# Altium footprint library RCID.PcbLib: 104 footprints (part 1 of 7)
Each footprint in its own frame and in the unit in brackets; x right, y up, seen from the top. Pads: shape width x height; smd on the part's side, far side on the other; paste and mask are expansions set on the pad; w line width, h text height; cw(c..) or ccw(c..) is an arc to the next point about the centre after c.
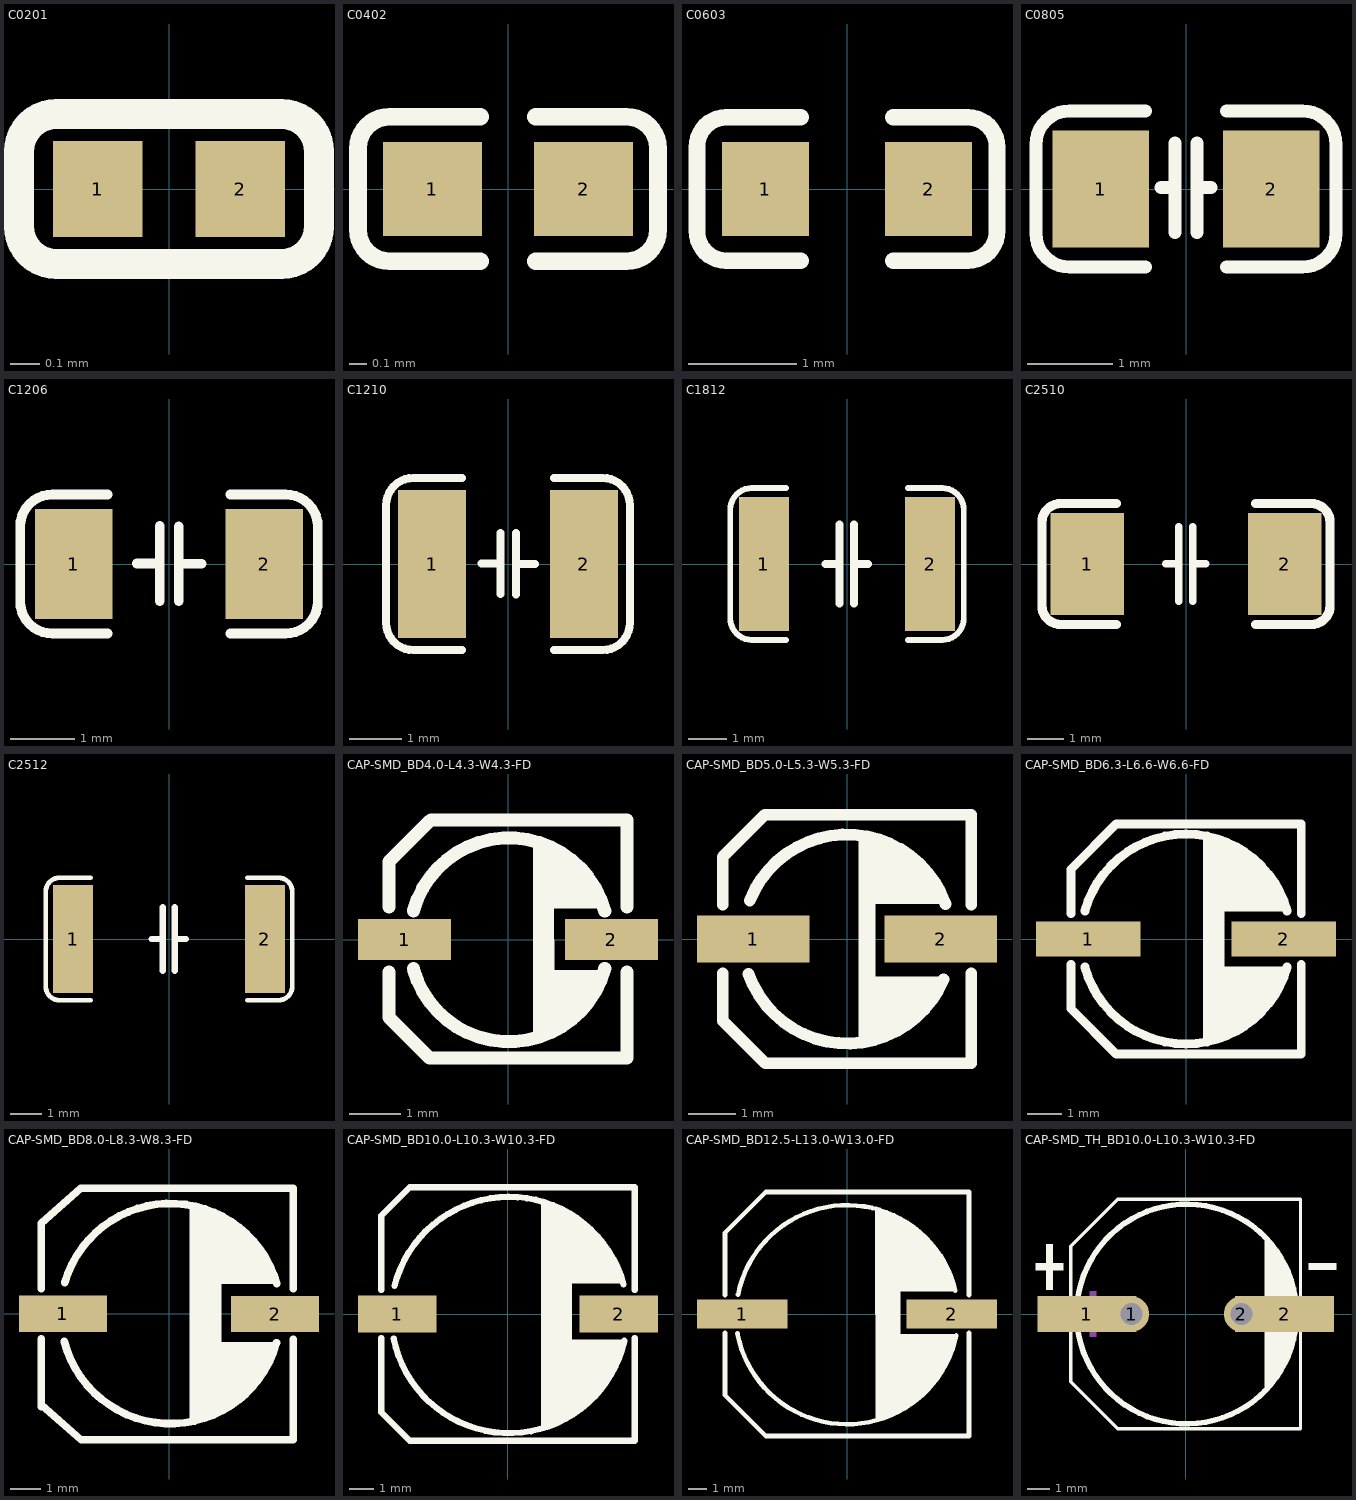
[diagram p0: the footprints below, top view; thin cyan lines are the x and y axes]

## C0201 [mm]
pads (2):
  rect 0.303x0.324 smd paste-100 mask+0.051: 1(-0.242,0) 2(0.242,0)
Top Overlay:
  lines w0.102: -0.508,-0.127 ccw(c-0.381,-0.127) -0.381,-0.254 0,-0.254 0.381,-0.254 ccw(c0.381,-0.127) 0.508,-0.127 0.508,0.127 ccw(c0.381,0.127) 0.381,0.254 -0.381,0.254 ccw(c-0.381,0.127) -0.508,0.127 -0.508,-0.127
Top Paste:
  region: 0.081,-0.138 0.081,0.138 0.105,0.162 0.369,0.162 0.393,0.138 0.393,-0.138 0.369,-0.162 0.105,-0.162
  region: -0.081,-0.138 -0.081,0.138 -0.105,0.162 -0.369,0.162 -0.393,0.138 -0.393,-0.138 -0.369,-0.162 -0.105,-0.162

## C0402 [mm]
pads (2):
  rect 0.566x0.54 smd paste-100 mask+0.051: 1(-0.433,0) 2(0.433,0)
Top Overlay:
  lines w0.102: -0.159,-0.413 -0.678,-0.413 cw(c-0.678,-0.233) -0.858,-0.233 -0.858,0.233 cw(c-0.678,0.233) -0.678,0.413 -0.159,0.413 ; 0.159,-0.413 0.678,-0.413 ccw(c0.678,-0.233) 0.858,-0.233 0.858,0.233 ccw(c0.678,0.233) 0.678,0.413 0.159,0.413
Top Paste:
  region: 0.135,-0.23 0.135,0.23 0.175,0.27 0.676,0.27 0.716,0.23 0.716,-0.23 0.676,-0.27 0.175,-0.27
  region: -0.135,-0.23 -0.135,0.23 -0.175,0.27 -0.676,0.27 -0.716,0.23 -0.716,-0.23 -0.676,-0.27 -0.175,-0.27

## C0603 [mm]
pads (2):
  rect 0.806x0.864 smd paste-100 mask+0.051: 1(-0.753,0) 2(0.753,0)
Top Overlay:
  lines w0.152: -0.426,-0.661 -1.117,-0.661 cw(c-1.117,-0.393) -1.385,-0.393 -1.385,0.393 cw(c-1.117,0.393) -1.117,0.661 -0.426,0.661 ; 0.426,-0.661 1.117,-0.661 ccw(c1.117,-0.393) 1.385,-0.393 1.385,0.393 ccw(c1.117,0.393) 1.117,0.661 0.426,0.661
Top Paste:
  region: 1.195,0.45 0.395,0.45 0.345,0.4 0.345,0.172 0.715,0.172 0.715,-0.158 0.345,-0.158 0.345,-0.4 0.395,-0.45 1.195,-0.45 1.245,-0.4 1.245,0.4
  region: -0.355,0.4 -0.355,0.172 -0.735,0.172 -0.735,-0.158 -0.355,-0.158 -0.355,-0.4 -0.405,-0.45 -1.195,-0.45 -1.245,-0.4 -1.245,0.4 -1.195,0.45 -0.405,0.45

## C0805 [mm]
pads (2):
  rect 1.133x1.377 smd paste-100 mask+0.051: 1(-1,0) 2(1,0)
Top Overlay:
  lines w0.152: -0.476,-0.917 -1.369,-0.917 cw(c-1.369,-0.525) -1.761,-0.525 -1.761,0.525 cw(c-1.369,0.525) -1.369,0.917 -0.476,0.917 ; -0.295,0.017 -0.127,0.017 ; -0.127,-0.508 -0.127,0.542 ; 0.127,-0.508 0.127,0.542 ; 0.127,0.017 0.295,0.017 ; 0.476,-0.917 1.369,-0.917 ccw(c1.369,-0.525) 1.761,-0.525 1.761,0.525 ccw(c1.369,0.525) 1.369,0.917 0.476,0.917
Top Paste:
  region: -1.7,-0.64 -1.7,0.64 -1.65,0.69 -0.5,0.69 -0.45,0.64 -0.445,0.23 -0.895,0.23 -0.895,-0.22 -0.455,-0.22 -0.45,-0.64 -0.5,-0.69 -1.65,-0.69
  region: 0.45,-0.64 0.45,-0.22 0.895,-0.22 0.895,0.23 0.455,0.23 0.45,0.64 0.5,0.69 1.65,0.69 1.7,0.64 1.7,-0.64 1.65,-0.69 0.5,-0.69

## C1206 [mm]
pads (2):
  rect 1.208x1.701 smd paste-100 mask+0.051: 1(-1.479,0) 2(1.479,0)
Top Overlay:
  lines w0.152: -0.951,-1.079 -1.812,-1.079 cw(c-1.812,-0.58) -2.311,-0.58 -2.311,0.58 cw(c-1.812,0.58) -1.812,1.079 -0.951,1.079 ; -0.502,0.007 -0.144,0.007 ; -0.144,-0.573 -0.144,0.588 ; 0.151,-0.576 0.151,0.584 ; 0.151,0.004 0.508,0.004 ; 0.951,-1.079 1.812,-1.079 ccw(c1.812,-0.58) 2.311,-0.58 2.311,0.58 ccw(c1.812,0.58) 1.812,1.079 0.951,1.079
Top Paste:
  region: -0.875,-0.75 -0.875,-0.389 -0.975,-0.289 -1.186,-0.289 -1.286,-0.189 -1.286,0.189 -1.186,0.289 -0.975,0.289 -0.875,0.389 -0.875,0.75 -0.975,0.85 -1.983,0.85 -2.083,0.75 -2.083,-0.75 -1.983,-0.85 -0.975,-0.85
  region: 0.875,-0.75 0.875,-0.389 0.975,-0.289 1.186,-0.289 1.286,-0.189 1.286,0.189 1.186,0.289 0.975,0.289 0.875,0.389 0.875,0.75 0.975,0.85 1.983,0.85 2.083,0.75 2.083,-0.75 1.983,-0.85 0.975,-0.85

## C1210 [mm]
pads (2):
  rect 1.283x2.808 smd paste-100 mask+0.051: 1(-1.441,0) 2(1.441,0)
Top Overlay:
  lines w0.152: -0.876,-1.633 -1.796,-1.633 cw(c-1.796,-1.118) -2.311,-1.118 -2.311,1.118 cw(c-1.796,1.118) -1.796,1.633 -0.876,1.633 ; -0.502,0.007 -0.144,0.007 ; -0.144,-0.573 -0.144,0.588 ; 0.151,-0.576 0.151,0.584 ; 0.151,0.004 0.508,0.004 ; 0.876,-1.633 1.796,-1.633 ccw(c1.796,-1.118) 2.311,-1.118 2.311,1.118 ccw(c1.796,1.118) 1.796,1.633 0.876,1.633
Top Paste:
  region: 0.8,-1.304 0.8,-0.577 0.9,-0.477 1.136,-0.477 1.236,-0.377 1.236,0.377 1.136,0.477 0.9,0.477 0.8,0.577 0.8,1.304 0.9,1.404 1.983,1.404 2.083,1.304 2.083,-1.304 1.983,-1.404 0.9,-1.404
  region: -0.8,-1.304 -0.8,-0.577 -0.9,-0.477 -1.136,-0.477 -1.236,-0.377 -1.236,0.377 -1.136,0.477 -0.9,0.477 -0.8,0.577 -0.8,1.304 -0.9,1.404 -1.983,1.404 -2.083,1.304 -2.083,-1.304 -1.983,-1.404 -0.9,-1.404

## C1812 [mm]
pads (2):
  rect 1.283x3.456 smd paste-100 mask+0.051: 1(-2.141,0) 2(2.141,0)
Top Overlay:
  lines w0.152: -1.576,-1.957 -2.456,-1.957 cw(c-2.456,-1.402) -3.011,-1.402 -3.011,1.402 cw(c-2.456,1.402) -2.456,1.957 -1.576,1.957 ; 1.576,-1.957 2.456,-1.957 ccw(c2.456,-1.402) 3.011,-1.402 3.011,1.402 ccw(c2.456,1.402) 2.456,1.957 1.576,1.957
  lines w0.203: -0.554,0.002 -0.196,0.002 ; -0.196,-1.014 -0.196,1.018 ; 0.185,-1.014 0.185,1.018 ; 0.185,0.002 0.542,0.002
Top Paste:
  region: 1.5,-1.628 1.5,-0.688 1.6,-0.588 1.836,-0.588 1.936,-0.488 1.936,0.488 1.836,0.588 1.6,0.588 1.5,0.688 1.5,1.628 1.6,1.728 2.683,1.728 2.783,1.628 2.783,-1.628 2.683,-1.728 1.6,-1.728
  region: -1.5,-1.628 -1.5,-0.688 -1.6,-0.588 -1.836,-0.588 -1.936,-0.488 -1.936,0.488 -1.836,0.588 -1.6,0.588 -1.5,0.688 -1.5,1.628 -1.6,1.728 -2.683,1.728 -2.783,1.628 -2.783,-1.628 -2.683,-1.728 -1.6,-1.728

## C2510 [mm]
pads (2):
  rect 2x2.8 smd paste+0 mask+0.05: 1(-2.7,0) 2(2.7,0)
Top Overlay:
  lines w0.203: -0.554,0.002 -0.196,0.002 ; -0.196,-1.014 -0.196,1.018 ; 0.185,-1.014 0.185,1.018 ; 0.185,0.002 0.542,0.002
  lines w0.254: -1.905,-1.651 -3.429,-1.651 cw(c-3.429,-1.143) -3.937,-1.143 -3.937,1.143 cw(c-3.429,1.143) -3.429,1.651 -1.905,1.651 ; 1.905,-1.651 3.429,-1.651 ccw(c3.429,-1.143) 3.937,-1.143 3.937,1.143 ccw(c3.429,1.143) 3.429,1.651 1.905,1.651

## C2512 [mm]
pads (2):
  rect 1.283x3.456 smd paste-100 mask+0.051: 1(-3.066,0) 2(3.066,0)
Top Overlay:
  lines w0.152: -2.501,-1.957 -3.504,-1.957 cw(c-3.504,-1.525) -3.936,-1.525 -3.936,1.525 cw(c-3.504,1.525) -3.504,1.957 -2.501,1.957 ; 2.501,-1.957 3.504,-1.957 ccw(c3.504,-1.525) 3.936,-1.525 3.936,1.525 ccw(c3.504,1.525) 3.504,1.957 2.501,1.957
  lines w0.203: -0.554,0.002 -0.196,0.002 ; -0.196,-1.014 -0.196,1.018 ; 0.185,-1.014 0.185,1.018 ; 0.185,0.002 0.542,0.002
Top Paste:
  region: 2.425,-1.628 2.425,-0.688 2.525,-0.588 2.761,-0.588 2.861,-0.488 2.861,0.488 2.761,0.588 2.525,0.588 2.425,0.688 2.425,1.628 2.525,1.728 3.608,1.728 3.708,1.628 3.708,-1.628 3.608,-1.728 2.525,-1.728
  region: -2.425,-1.628 -2.425,-0.688 -2.525,-0.588 -2.761,-0.588 -2.861,-0.488 -2.861,0.488 -2.761,0.588 -2.525,0.588 -2.425,0.688 -2.425,1.628 -2.525,1.728 -3.608,1.728 -3.708,1.628 -3.708,-1.628 -3.608,-1.728 -2.525,-1.728

## CAP-SMD_BD4.0-L4.3-W4.3-FD [mm]
pads (2):
  rect 1.8x0.8 smd paste+0 mask+0.051: 1(-2,0) 2(2,0)
Top Overlay:
  region: 0.49,1.84 0.49,-1.89 1.17,-1.54 1.54,-1.09 1.78,-0.74 1.84,-0.59 0.89,-0.59 0.88,0.6 1.83,0.6 1.54,1.21 1.17,1.59 0.75,1.79 0.72,1.84
  lines w0.254: -2.3,-0.631 -2.3,-1.51 -1.52,-2.29 2.3,-2.29 2.3,-0.631 ; -2.3,0.631 -2.3,1.51 -1.52,2.29 ; -1.83,-0.563 ccw(c0.02,-0.061) 1.87,-0.563 ; -1.83,0.55 cw(c0.02,0.048) 1.87,0.55 ; -1.49,2.31 2.3,2.31 2.3,0.631

## CAP-SMD_BD5.0-L5.3-W5.3-FD [mm]
pads (2):
  rect 2.4x1 smd paste+0 mask+0.051: 1(-2,0) 2(2,0)
Top Overlay:
  region: 0.25,2.2 0.25,-2.15 0.65,-2.05 1.1,-1.9 1.45,-1.6 1.8,-1.25 1.95,-1.05 2.05,-0.8 0.6,-0.8 0.6,0.75 2.1,0.75 1.95,1.05 1.8,1.35 1.65,1.55 1.35,1.75 1.1,1.9 0.85,2.05 0.6,2.15 0.25,2.2
  lines w0.254: -2.65,-0.731 -2.65,-1.75 -2.64,-1.75 -1.74,-2.65 2.65,-2.65 2.65,-0.731 ; -2.65,0.731 -2.65,1.75 -1.75,2.65 -1.73,2.65 2.65,2.65 2.65,0.731 ; -2.1,-0.75 ccw(c0,0) 2.058,-0.858 ; -2.074,0.819 cw(c0,0) 2.1,0.75

## CAP-SMD_BD6.3-L6.6-W6.6-FD [mm]
pads (2):
  rect 3x1 smd paste+0 mask+0.051: 1(-2.8,0) 2(2.8,0)
Top Overlay:
  region: 0.5,-3 0.5,2.9 0.5,3 0.5,2.9 1.1,2.8 1.6,2.6 1.9,2.3 2.2,2.1 2.5,1.8 2.7,1.4 2.9,0.8 1.1,0.8 1.1,-0.8 2.9,-0.8 2.8,-1 2.7,-1.4 2.4,-1.7 2.2,-2.1 1.8,-2.4 1.4,-2.6 1,-2.8 0.5,-3
  lines w0.254: -3.297,-0.732 -3.297,-1.999 -1.996,-3.299 3.302,-3.299 3.302,-0.732 ; -3.297,0.732 -3.297,1.999 -1.996,3.299 3.302,3.299 3.302,0.732 ; -2.9,-0.8 ccw(c0,0) 2.9,-0.8 ; -2.9,0.8 cw(c0,0) 2.9,0.8

## CAP-SMD_BD8.0-L8.3-W8.3-FD [mm]
pads (2):
  rect 2.9x1.2 smd paste+0 mask+0.051: 1(-3.5,0.005) 2(3.5,-0.005)
Top Overlay:
  region: 0.686,3.607 0.686,-3.581 1.219,-3.378 1.6,-3.226 1.981,-3.048 2.311,-2.819 2.692,-2.489 2.921,-2.184 3.175,-1.854 3.277,-1.6 3.454,-1.194 3.531,-0.94 1.727,-0.94 1.727,0.991 3.531,0.991 3.251,1.626 2.997,2.235 2.616,2.565 2.235,2.921 1.854,3.124 1.372,3.378 1.092,3.48 0.686,3.683
  lines w0.254: -4.211,-3.068 -4.211,-0.826 ; -4.211,-3.015 -2.901,-4.155 4.1,-4.155 4.1,-0.836 ; -4.211,0.836 -4.211,2.995 -2.911,4.145 ; -3.454,-0.914 ccw(c0.051,0) 3.544,-0.958 ; -3.442,1.035 cw(c0.051,0) 3.556,0.991 ; -2.901,4.145 4.1,4.145 4.1,0.826

## CAP-SMD_BD10.0-L10.3-W10.3-FD [mm]
pads (2):
  rect 3.2x1.5 smd paste+0 mask+0.051: 1(-4.5,0) 2(4.5,0)
Top Overlay:
  region: 1.35,4.6 1.35,-4.65 1.8,-4.45 2.4,-4.2 2.9,-3.9 3.25,-3.55 3.55,-3.35 3.85,-2.95 4.2,-2.35 4.45,-1.95 4.6,-1.6 4.75,-1.05 2.6,-1.05 2.6,1.1 2.6,1.25 4.65,1.25 4.5,1.8 4.2,2.45 3.95,2.9 3.4,3.45 2.8,3.85 2.2,4.2 1.8,4.5 1.35,4.65
  lines w0.254: -5.15,-0.981 -5.15,-4 -4,-5.15 5.15,-5.15 5.15,-0.981 ; -5.15,0.981 -5.15,4 -4,5.15 5.15,5.15 5.15,0.981 ; -4.65,-1 ccw(c0.05,-0.05) 4.731,-1.09 ; -4.614,1.146 cw(c0.05,-0.05) 4.7,1.2

## CAP-SMD_BD12.5-L13.0-W13.0-FD [mm]
pads (2):
  rect 5x1.6 smd paste+0 mask+0.051: 1(-5.8,0) 2(5.8,0)
Top Overlay:
  region: 1.57,5.92 1.59,-5.97 2.25,-5.72 2.91,-5.49 3.42,-5.16 3.75,-4.88 4.24,-4.55 4.62,-4.14 5.07,-3.56 5.3,-3.02 5.58,-2.62 5.71,-2.16 5.89,-1.74 6,-1.42 6.04,-1.16 6.04,-1.11 2.95,-1.12 2.95,0.05 2.95,1.23 6,1.25 5.85,1.83 5.64,2.45 5.29,3.13 4.95,3.7 4.57,4.12 4.27,4.45 3.84,4.82 3.16,5.25 2.15,5.75 1.58,5.95
  lines w0.254: -6.75,-1.031 -6.75,-4.5 -4.5,-6.75 6.75,-6.75 6.75,-1.031 ; -6.75,1.031 -6.75,4.5 -4.5,6.75 6.75,6.75 6.75,1.031 ; -6.06,-1.08 ccw(c0.003,0.068) 6.044,-1.191 ; -6.03,1.08 cw(c0.007,-0.133) 6,1.28

## CAP-SMD_TH_BD10.0-L10.3-W10.3-FD [mm]
pads (4):
  rect 4.5x1.65 smd paste+0 mask+0.051: 1(-4.5,0) 2(4.5,0)
  round 1.6 hole 1 paste-2539.97 mask+0.05: 1(-2.46,0) 2(2.54,0)
Top Overlay:
  circle w0.254: c0.04,0 r5
  region: 3.596,3.556 3.596,-3.556 4.358,-2.54 4.866,-1.016 5.12,0.508 4.866,1.524
  region: -6.35,3.175 -6.35,1.115 -6.041,1.115 -6.041,3.175
  region: -6.813,2.3 -6.813,1.991 -5.577,1.991 -5.577,2.3
  region: 6.841,2.314 6.841,2.005 5.605,2.005 5.605,2.314
  lines w0.152: -5.226,-0.852 -5.226,-3.09 -3.09,-5.226 5.226,-5.226 5.226,-0.852 ; -5.226,0.852 -5.226,3.09 -3.09,5.226 5.226,5.226 5.226,0.852
Mechanical 15:
  region: -4.378,1.03 -4.378,-1.03 -4.068,-1.03 -4.068,1.03
  region: -4.841,0.155 -4.841,-0.155 -3.605,-0.155 -3.605,0.155
  region: 4.841,0.155 4.841,-0.155 3.605,-0.155 3.605,0.155